# Altium schematic symbol library Schlib_Semtech.SchLib: 4 symbols
Pins are listed as number, name and electrical type; pins without a type are passive.

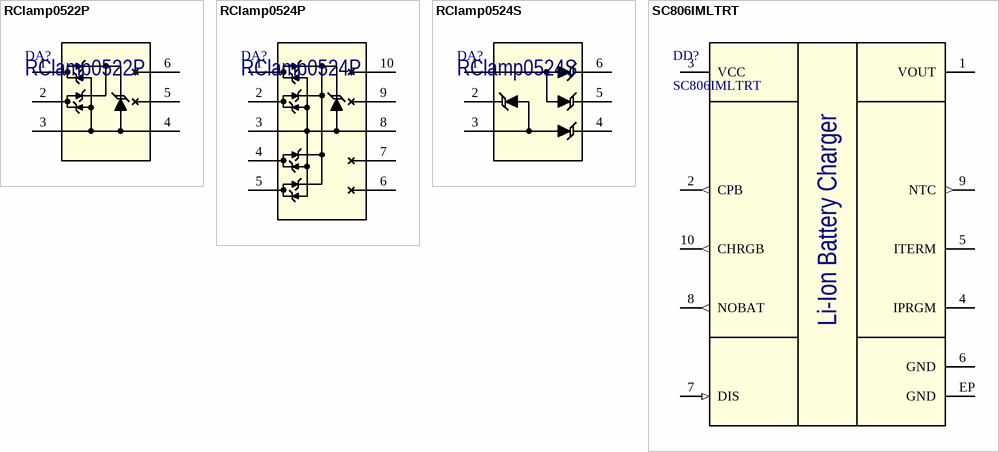
[diagram p0: symbols RClamp0522P to SC806IMLTRT]

## RClamp0522P
designator DA?
Ultra Low Capacitance TVS Arrays; Manufacturer: Semtech; Part Number: RClamp0522P; Package: SLP1610P4
footprint SLP1610P4 (Package for RClamp0522P)
pins: 1 IO1, 2 IO2, 3 GND (hiz), 4 GND (hiz), 5 NC (hiz), 6 NC (hiz)

## RClamp0524P
designator DA?
Ultra Low Capacitance TVS Arrays; Manufacturer: Semtech; Part Number: RClamp0524P; Package: SLP2510P8
footprint SLP2510P8 (Package for RClamp0524P)
pins: 1 IO1, 2 IO2, 3 GND (hiz), 4 IO3, 5 IO4, 6 NC (hiz), 7 NC (hiz), 8 GND (hiz), 9 NC (hiz), 10 NC (hiz)

## RClamp0524S
designator DA?
Low Capacitance TVS Arrays; Manufacturer: Semtech; Part Number: RClamp0524S; Package: SOT23-6
footprint SOT23-6 (SOT23, 6-Leads, Body 2.90x2.80mm, Pitch 0.95mm, IPC Medium Density)
pins: 1 IO1, 2 IO2, 3 GND (hiz), 4 GND (hiz), 5 NC (hiz), 6 NC (hiz)

## SC806IMLTRT
designator DD?
Miniature High Current Lithium-Ion Battery Charger; Manufacturer: Semtech; Part Number: SC806IMLTRT; Package: MLPD-10 (3mm x 3mm)
footprint MLPD-10
pins: 1 VOUT (power), 2 CPB (out), 3 VCC (power), 4 IPRGM, 5 ITERM, 6 GND (power), 7 DIS (in), 8 NOBAT (out), 9 NTC (out), 10 CHRGB (out), EP GND (power)
text: Li-Ion Battery Charger